# Altium integrated library L7805ACD2T-TR.IntLib: 1 symbol
Pins are listed as number, name and electrical type; pins without a type are passive.

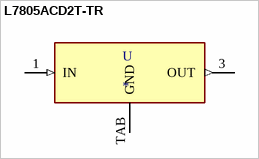
[diagram p0: symbol L7805ACD2T-TR]

## L7805ACD2T-TR
designator U
Linear Voltage Regulator IC 1 Output 1.5A D2PAK; MP: L7805ACD2T-TR; MF: STMicroelectronics; Package: D2PAK STMicroelectronics; Value: *; Availability: Unavailable; Price: None; SnapEDA_Link: https://www.snapeda.com/parts/L7805ACD2T-TR/STMicroelectronics/view-part/104395/?ref=snap
footprint D2PAK
pins: 1 IN (in), 3 OUT (out), TAB GND